# EAGLE library part DF12(4.0)-20DP-0.5V(86) (library DF12(4.0)-20DP-0.5V(86))
Connector,Board to Board,DF12 Hirose DF12 Series, 0.5mm Pitch 20 Way 2 Row Straight PCB Header, Solder Termination, 0.3A <https://componentsearchengine.com/Images/3/DF12%284.0%29-20DP-0.5V%2886%29.jpg> Source: Datasheet <http://uk.rs-online.com/web/p/products/6082121>
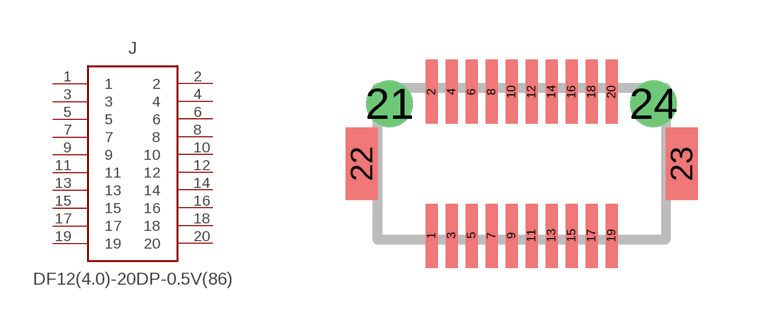
[diagram p0: symbol with the pads of DF12(4.0)-20DP; footprint DF12(4.0)-20DP]

Designator prefix J

## DF12(4.0)-20DP-0.5V(86) (Allied_Number: R1051077; Description: Connector,Board to Board,DF12 Hirose DF12 Series, 0.5mm Pitch 20 Way 2 Row Straight PCB Header, Solder Termination, 0.3A; Height: mm; Manufacturer_Name: Hirose; Manufacturer_Part_Number: DF12(4.0)-20DP-0.5V(86); RS_Part_Number: 6082121P; Supplier_Name: RS)  [DF12(4.0)-20DP]
1  1  pas
2  2  pas
3  3  pas
4  4  pas
5  5  pas
6  6  pas
7  7  pas
8  8  pas
9  9  pas
10  10  pas
11  11  pas
12  12  pas
13  13  pas
14  14  pas
15  15  pas
16  16  pas
17  17  pas
18  18  pas
19  19  pas
20  20  pas

## Footprint DF12(4.0)-20DP (pad centres in mm)
DF12(4.0)-20DP
smd 0.3 x 1.6: 1 -2.25,-1.8; 2 -2.25,1.8; 3 -1.75,-1.8; 4 -1.75,1.8; 5 -1.25,-1.8; 6 -1.25,1.8; 7 -0.75,-1.8; 8 -0.75,1.8; 9 -0.25,-1.8; 10 -0.25,1.8; 11 0.25,-1.8; 12 0.25,1.8; 13 0.75,-1.8; 14 0.75,1.8; 15 1.25,-1.8; 16 1.25,1.8; 17 1.75,-1.8; 18 1.75,1.8; 19 2.25,-1.8; 20 2.25,1.8
drill 0.65 pad 1.15: 21 -3.3,1.5; 24 3.3,1.5
smd 0.8 x 1.8: 22 -4,0; 23 4,0